# Altium schematic symbol library SP12T.SCHLIB: 2 symbols
Pins are listed as number, name and electrical type; pins without a type are passive.

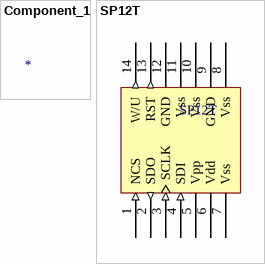
[diagram p0: symbols Component_1 to SP12T]

## Component_1
designator *

## SP12T
designator SP12T
Pressure/Temperature sensor
footprint SOP14 (SP12T Footprint)
pins: 1 NCS (in) "Negative Chip Select", 2 SDO (out) "Serial Data Output", 3 SCLK (in) "Serial Clock", 4 SDI (in) "Serial Data Input", 5 Vpp (hiz) "Programming Voltage - Do Not connect", 6 Vdd (power) "Supply Voltage", 7 Vss (power) "Gnd", 8 Vss (power) "Gnd", 9 GND (power) "Gnd", 10 Vss (power) "Gnd", 11 Vss (power) "Gnd", 12 GND (power) "Gnd", 13 RST (out) "Reset Output Signal", 14 W/U (out) "Wakeup Output Signal"